# EAGLE library part FDC6312P (library badge)
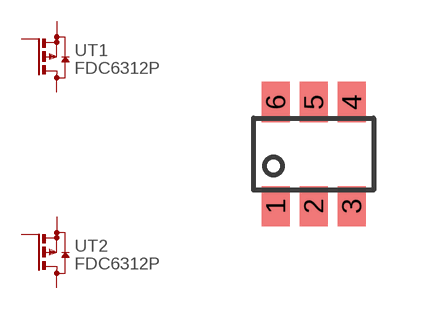
[diagram p2: symbol with the pads of SUPERSOT6; footprint SUPERSOT6]

Designator prefix -; gates T1=PMOS T2=PMOS

## FDC6312P  [SUPERSOT6]
1  T1:G  pas
2  T2:S  pas
3  T2:G  pas
4  T2:D  pas
5  T1:S  pas
6  T1:D  pas

## Footprint SUPERSOT6 (pad centres in mm)
smd 0.7 x 1: 1 -0.95,-1.3; 2 0,-1.3; 3 0.95,-1.3; 4 0.95,1.3; 5 0,1.3; 6 -0.95,1.3